# EAGLE library part SN74LVC2G14 (library SparkFun-DigitalIC)
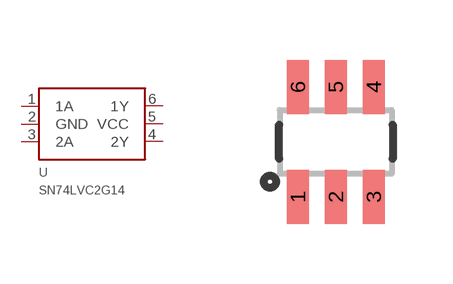
[diagram p142: symbol with the pads of SOT23-6; footprint SOT23-6]

Designator prefix -

## SN74LVC2G14  [SOT23-6]
1  1A
2  GND
3  2A
4  2Y
5  VCC
6  1Y

## Footprint SOT23-6 (pad centres in mm)
smd 0.55 x 1.35: 1 -0.95,-1.375; 2 0,-1.375; 3 0.95,-1.375; 4 0.95,1.375; 5 0,1.375; 6 -0.95,1.375